# EAGLE library part 74*354 (library 74ttl-din)
8-to 1 line data SELECTOR/MULTIPLEXER/REGISTER
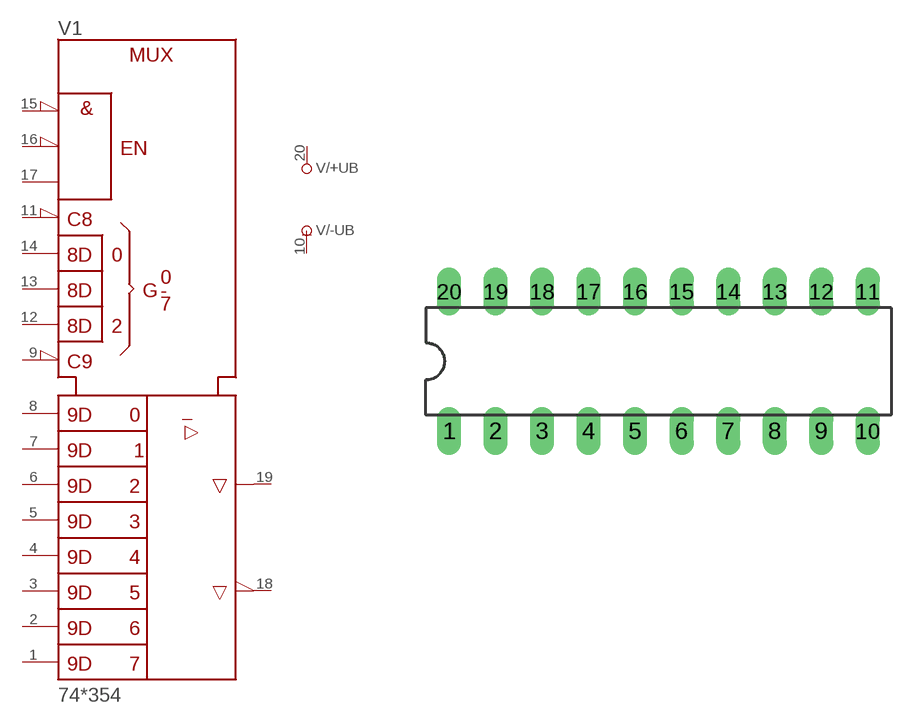
[diagram p26: symbol with the pads of DIL20; footprint DIL20]

Designator prefix V; gates /+UB=+UB /-UB=-UB 1=354

## 74354N  [DIL20]
1  1:D7  in
2  1:D6  in
3  1:D5  in
4  1:D4  in
5  1:D3  in
6  1:D2  in
7  1:D1  in
8  1:D0  in
9  1:!DC  in
10  /-UB:-UB  pwr
11  1:!SC  in
12  1:S2  in
13  1:S1  in
14  1:S0  in
15  1:!G1  in
16  1:!G2  in
17  1:G3  in
18  1:W  hiz
19  1:Y  hiz
20  /+UB:+UB  pwr

## Footprint DIL20 (pad centres in mm)
Dual In Line Package
drill 0.813 long: 1 -11.43,-3.81; 2 -8.89,-3.81; 3 -6.35,-3.81; 4 -3.81,-3.81; 5 -1.27,-3.81; 6 1.27,-3.81; 7 3.81,-3.81; 8 6.35,-3.81; 9 8.89,-3.81; 10 11.43,-3.81; 11 11.43,3.81; 12 8.89,3.81; 13 6.35,3.81; 14 3.81,3.81; 15 1.27,3.81; 16 -1.27,3.81; 17 -3.81,3.81; 18 -6.35,3.81; 19 -8.89,3.81; 20 -11.43,3.81